# Altium footprint library TP4056.PcbLib: 1 footprints
Each footprint in its own frame and in the unit in brackets; x right, y up, seen from the top. Pads: shape width x height; smd on the part's side, far side on the other; paste and mask are expansions set on the pad; w line width, h text height; cw(c..) or ccw(c..) is an arc to the next point about the centre after c.
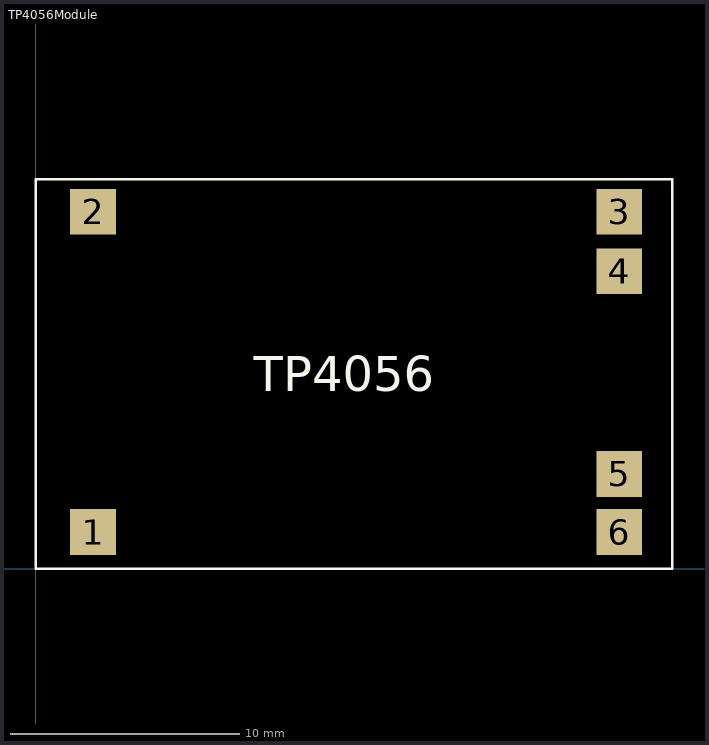
[diagram p0: the footprint, top view; thin cyan lines are the x and y axes]

## TP4056Module [mm]
pads (6):
  rect 2x2 smd: 1(2.5,1.6) 2(2.5,15.6) 3(25.5,15.6) 4(25.5,13) 5(25.5,4.14) 6(25.5,1.6)
Top Overlay:
  lines w0.1: 0,0 0,17.018 27.813,17.018 27.813,0 0,0
  text "TP4056" at 9.525,7.747 h1.52